# Altium footprint library 曾宪阳PCB库.PcbLib: 142 footprints (part 9 of 9)
Each footprint in its own frame and in the unit in brackets; x right, y up, seen from the top. Pads: shape width x height; smd on the part's side, far side on the other; paste and mask are expansions set on the pad; w line width, h text height; cw(c..) or ccw(c..) is an arc to the next point about the centre after c.
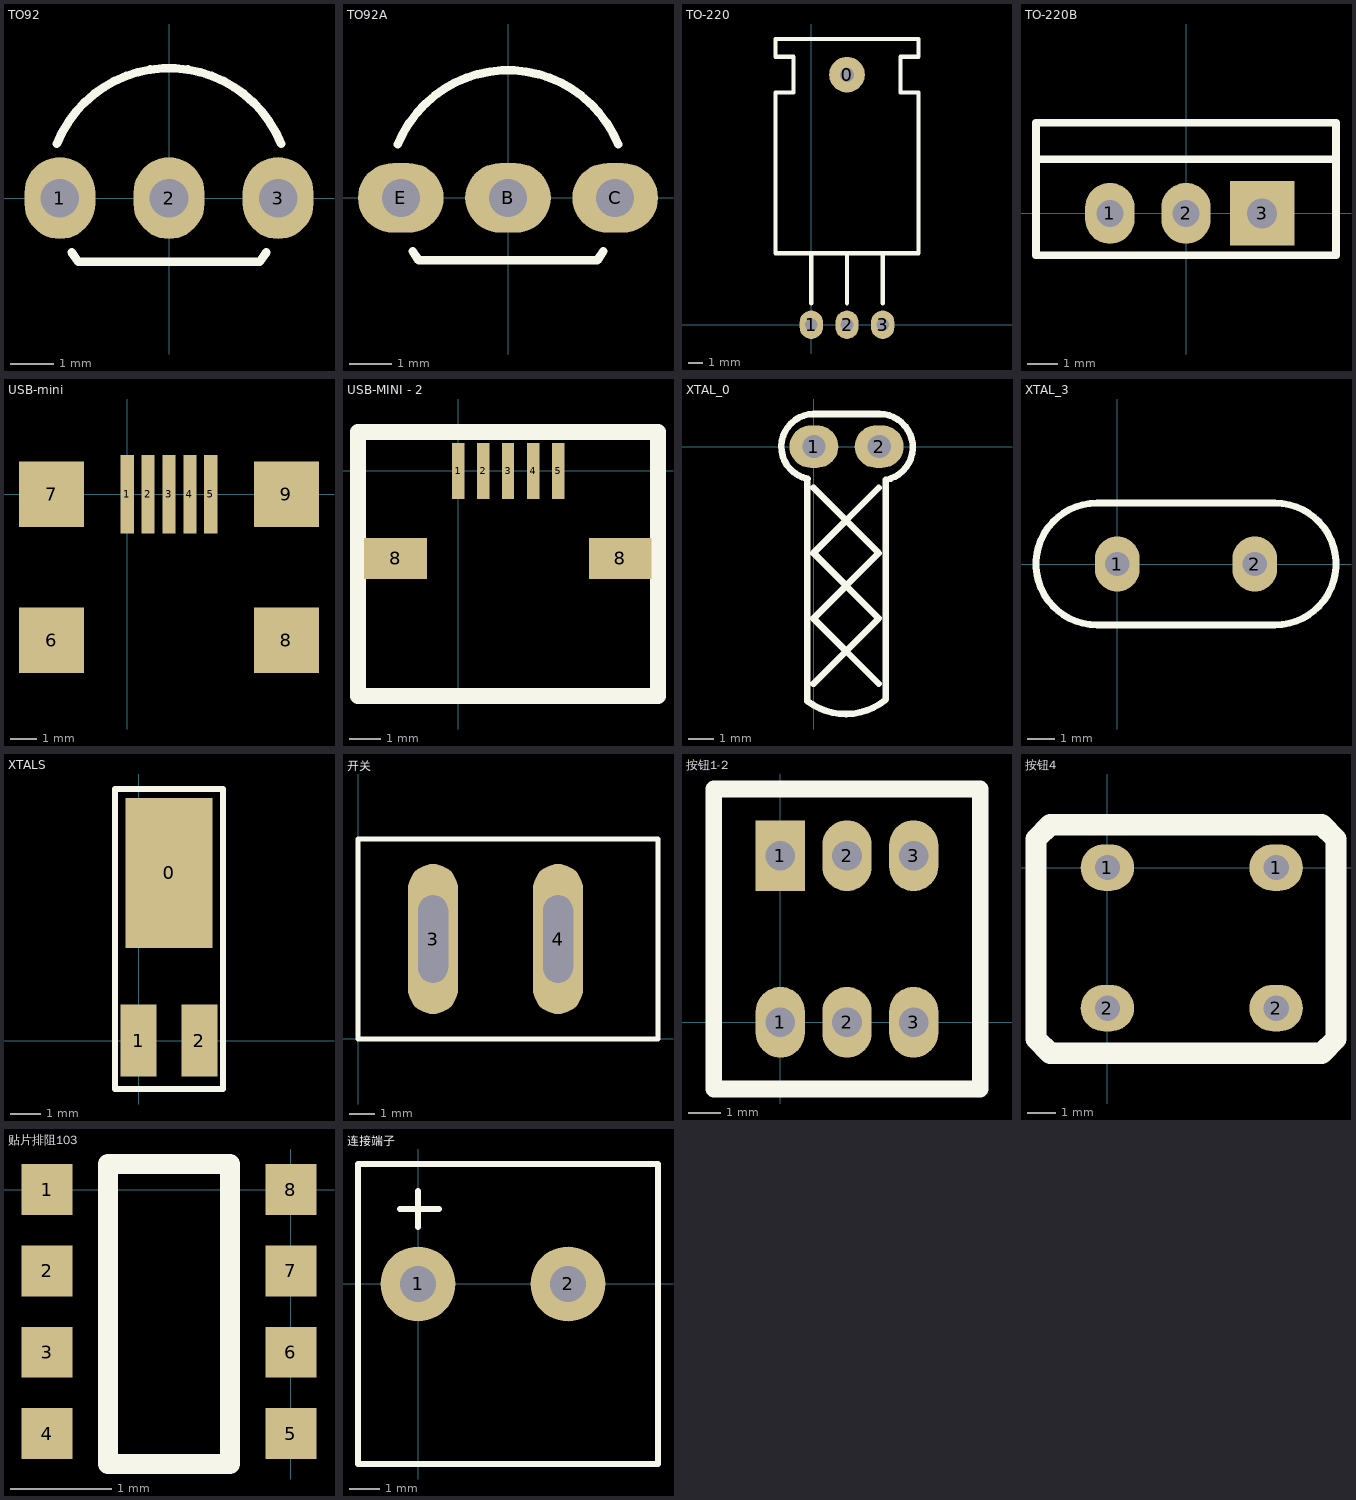
[diagram p8: the footprints below, top view; thin cyan lines are the x and y axes]

## TO92 [mil]
pads (3):
  oval 65x75 hole 35.43: 1(-100,0) 2(0,0) 3(100,0)
Top Overlay:
  lines w7.87: -102.76,49.85 cw(c0,8.33) 102.76,49.85 ; -89.08,-49.71 -83.33,-58.33 83.33,-58.33 89.08,-49.71

## TO92A [mil]
pads (3):
  oval 80x65 hole 35.43: B(0,0) C(100,0) E(-100,0)
Top Overlay:
  lines w7.87: -102.76,49.85 cw(c0,8.33) 102.76,49.85 ; -89.08,-49.71 -83.33,-58.33 83.33,-58.33 89.08,-49.71

## TO-220 [mil]
pads (4):
  round 100 hole 40: 0(100,700)
  oval 65x80 hole 35.43: 1(0,0) 2(100,0) 3(200,0)
Top Overlay:
  lines w12: 0,60 0,200 ; 100,60 100,200 ; 200,60 200,200 ; -100,200 300,200 300,650 250,650 250,750 300,750 300,800 -100,800 -100,750 -50,750 -50,650 -100,650 -100,200

## TO-220B [mil]
pads (3):
  oval 65x80 hole 35.43: 1(-100.25,-0.28) 2(-0.25,-0.28)
  rect 85x85 hole 39.37: 3(99.75,-0.28)
Top Overlay:
  lines w10: -197.25,70.72 196.75,70.72 ; -197.25,-55.28 196.75,-55.28 196.75,118.72 -197.25,118.72 -197.25,-55.28

## USB-mini [mm]
pads (9):
  rect 0.5x3 smd: 1(0,0) 2(0.8,0) 3(1.6,0) 4(2.4,0) 5(3.2,0)
  rect 2.5x2.5 smd: 6(-2.9,-5.6) 7(-2.9,0) 8(6.1,-5.6) 9(6.1,0)

## USB-MINI - 2 [mm]
pads (7):
  rect 0.4x1.8 smd: 1(0,0) 2(0.8,0) 3(1.6,0) 4(2.4,0) 5(3.2,0)
  rect 2x1.3 smd: 8(-2,-2.8) 8(5.2,-2.8)
Top Overlay:
  lines w0.508: -3.2,-7.2 6.4,-7.2 6.4,1.245 -3.2,1.245 -3.2,-7.2

## XTAL_0 [mil]
pads (2):
  oval 75x65 hole 35.43: 1(0,0) 2(100,0)
Top Overlay:
  lines w10: -10,-50 -10,-389.76 ccw(c48.82,-312.6) 109.1,-388.63 ; -9.81,-49.03 cw(c0,0) 0,50 100.28,50 cw(c100.35,-0.99) 110.35,-50.99 110.35,-387.38 ; -0.66,-363.12 99.34,-263.12 -0.66,-163.12 99.34,-63.12 ; -0.66,-63.12 99.34,-163.12 -0.66,-263.12 99.34,-363.12

## XTAL_3 [mil]
pads (2):
  oval 65x80 hole 35.43: 1(0,0) 2(200,0)
Top Overlay:
  lines w10: -29.54,-88.58 cw(c-29.54,0) -29.54,88.58 229.49,88.58 cw(c229.49,0) 229.49,-88.58 -29.54,-88.58

## XTALS [mm]
pads (3):
  rect 2.9x5 smd: 0(1.016,5.588)
  rect 1.2x2.4 smd: 1(0,0) 2(2.032,0)
Top Overlay:
  lines w0.203: -0.784,-1.612 -0.784,8.388 2.816,8.388 2.816,-1.612 -0.784,-1.612

## 开关 [mm]
pads (2):
  oval 2x6 hole 1.2 slot 3.5 at 90 deg: 3(3,4) 4(8,4)
Top Overlay:
  lines w0.2: 0,0 0,8 12,8 12,0 0,0

## 按钮1-2 [mm]
pads (6):
  oval 1.5x2.159 hole 0.9: 1(0,0) 2(2.032,0) 2(2.032,5.08) 3(4.064,0) 3(4.064,5.08)
  rect 1.5x2.159 hole 0.9: 1(0,5.08)
Top Overlay:
  lines w0.508: -2.032,-2.032 -1.524,-2.032 6.096,-2.032 6.096,7.112 -1.524,7.112 -2.032,7.112 -2.032,-2.032

## 按钮4 [mm]
pads (4):
  oval 1.905x1.651 hole 0.9: 1(0,0) 1(6,0) 2(0,-5) 2(6,-5)
Top Overlay:
  lines w0.762: -2.54,-6.096 -2.54,1.016 -2.032,1.524 7.62,1.524 8.128,1.016 8.128,-6.096 7.62,-6.604 -2.032,-6.604 -2.54,-6.096

## 贴片排阻103 [mm]
pads (8):
  rect 0.5x0.5 smd: 1(-2.4,0) 2(-2.4,-0.8) 3(-2.4,-1.6) 4(-2.4,-2.4) 5(0,-2.4) 6(0,-1.6) 7(0,-0.8) 8(0,0)
Top Overlay:
  lines w0.2: -0.6,-2.7 -1.8,-2.7 -1.8,0.252 -0.6,0.252 -0.6,-2.69

## 连接端子 [mm] "2P"
pads (2):
  round 2.5 hole 1.2: 1(0,0) 2(5,0)
Top Overlay:
  lines w0.2: -0.6,2.5 0.7,2.5 ; 0,1.9 0,3.1 ; -2,-6 -2,4 8,4 8,-6 -2,-6